# EAGLE library part ADM1602K (library 3D_MIG_Controller)
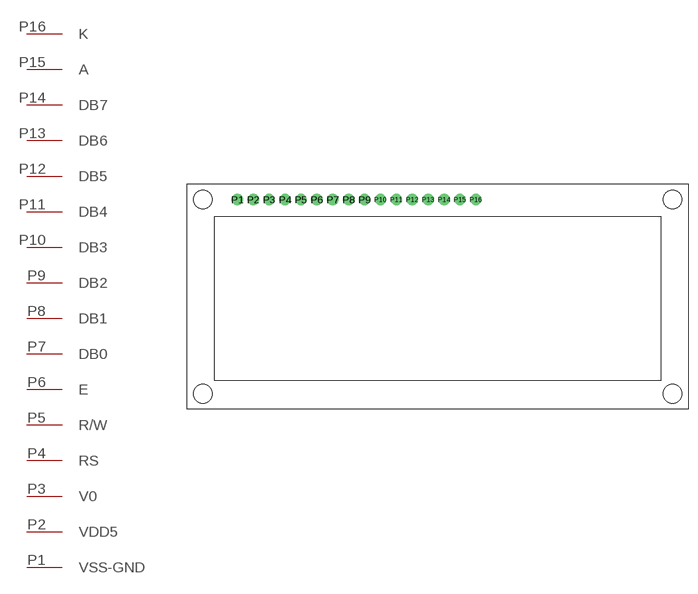
[diagram p83: symbol with the pads of ADM1602K; footprint ADM1602K]

Designator prefix LCD

## ADM1602K  [ADM1602K]
P1  VSS-GND
P2  VDD5
P3  V0
P4  RS
P5  R/W
P6  E
P7  DB0
P8  DB1
P9  DB2
P10  DB3
P11  DB4
P12  DB5
P13  DB6
P14  DB7
P15  A
P16  K

## Footprint ADM1602K (pad centres in mm)
drill 1.2: P1 -32,15.5; P2 -29.46,15.5; P3 -26.92,15.5; P4 -24.38,15.5; P5 -21.84,15.5; P6 -19.3,15.5; P7 -16.76,15.5; P8 -14.22,15.5; P9 -11.68,15.5; P10 -9.14,15.5; P11 -6.6,15.5; P12 -4.06,15.5; P13 -1.52,15.5; P14 1.02,15.5; P15 3.56,15.5; P16 6.1,15.5
hole 3 at -37.5,-15.5
hole 3 at 37.5,-15.5
hole 3 at 37.5,15.5
hole 3 at -37.5,15.5